# EAGLE library part HEADER-RA-SHROUD-007POS-2_54MM (library FlashPCB_Connectors)
Header RA Shroud 7POS - Header Right Angle with Shroud 7POS 2.54MM Technical Specifications: Pitch: 0.1" (2.54mm)
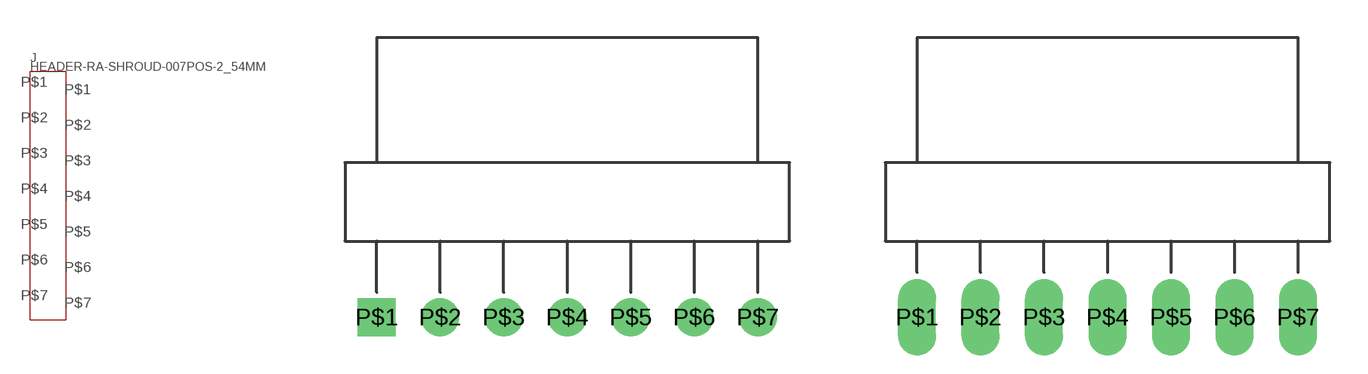
[diagram p1: symbol with the pads of HEADER-RA-SHROUD-007POS-THT-2_54MM; footprints HEADER-RA-SHROUD-007POS-THT-2_54MM, HEADER-RA-SHROUD-007POS-THT-LONG-2_54MM]

Designator prefix J

## HEADER-RA-SHROUD-007POS-2_54MMSTANDARD  [HEADER-RA-SHROUD-007POS-THT-2_54MM]
P$1  P$1
P$2  P$2
P$3  P$3
P$4  P$4
P$5  P$5
P$6  P$6
P$7  P$7

## HEADER-RA-SHROUD-007POS-2_54MMOVAL_PADS  [HEADER-RA-SHROUD-007POS-THT-LONG-2_54MM]
Pads as for HEADER-RA-SHROUD-007POS-THT-2_54MM

## Footprint HEADER-RA-SHROUD-007POS-THT-2_54MM (pad centres in mm)
drill 1.016 square: P$1 0,0
drill 1.016: P$2 2.54,0; P$3 5.08,0; P$4 7.62,0; P$5 10.16,0; P$6 12.7,0; P$7 15.24,0

## Footprint HEADER-RA-SHROUD-007POS-THT-LONG-2_54MM (pad centres in mm)
drill 1.016 long: P$1 0,0; P$2 2.54,0; P$3 5.08,0; P$4 7.62,0; P$5 10.16,0; P$6 12.7,0; P$7 15.24,0